# Altium footprint library STM32_Phone.PcbLib: 9 footprints
Each footprint in its own frame and in the unit in brackets; x right, y up, seen from the top. Pads: shape width x height; smd on the part's side, far side on the other; paste and mask are expansions set on the pad; w line width, h text height; cw(c..) or ccw(c..) is an arc to the next point about the centre after c.
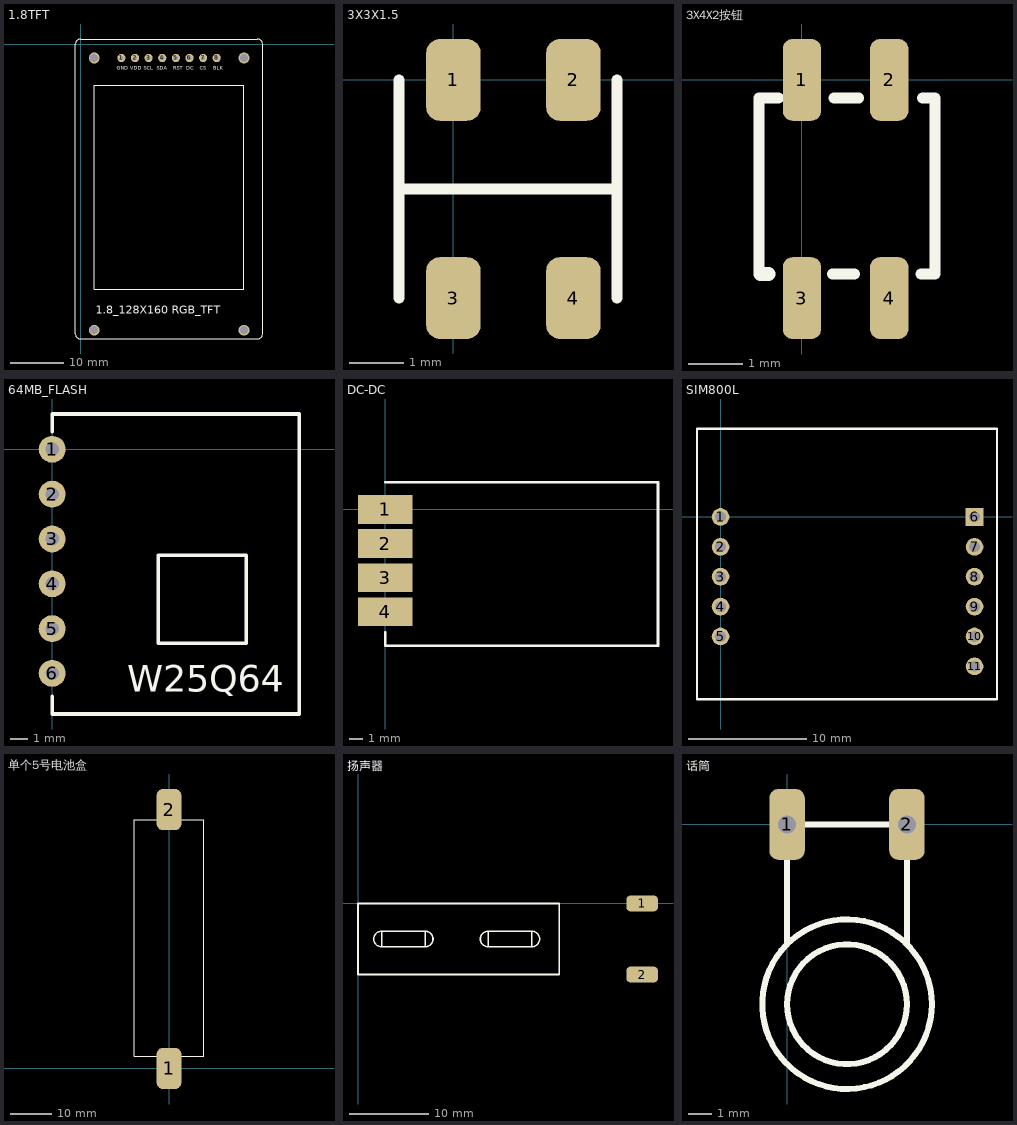
[diagram p0: the footprints below, top view; thin cyan lines are the x and y axes]

## 1.8TFT [mil]
pads (8):
  round 60 hole 30: 1(300,-100) 2(400,-100) 3(500,-100) 4(600,-100) 5(700,-100) 6(800,-100) 7(900,-100) 8(1000,-100)
via 1200,-2100 diameter 78.74 hole 59.06
via 100,-2100 diameter 78.74 hole 59.06
via 1200,-100 diameter 78.74 hole 59.06
via 100,-100 diameter 78.74 hole 59.06
Top Overlay:
  lines w7.87: -39.37,-2125.98 ccw(c0,-2125.98) 0,-2165.35 1299.21,-2165.35 ccw(c1299.21,-2125.98) 1338.58,-2125.98 1338.58,0 ccw(c1299.21,0) 1299.21,39.37 0,39.37 ccw(c0,0) -39.37,0 -39.37,-2125.98 ; 100,-1800 1200,-1800 1200,-300 100,-300 100,-1800
  text "GND" at 265.91,-186.85 h27.56
  text "VDD" at 364.02,-186.85 h27.56
  text "SCL" at 462.76,-186.85 h27.56
  text "SDA" at 561.18,-186.85 h27.56
  text "RST" at 679.29,-186.85 h27.56
  text "DC" at 777.72,-186.85 h27.56
  text "CS" at 876.14,-186.85 h27.56
  text "BLK" at 974.57,-186.85 h27.56
  text "1.8_128X160 RGB_TFT" at 110,-1980.16 h59.06

## 3X3X1.5 [mm]
pads (4):
  rrect50% 1x1.5 / inner rrect50% 1x0 / far side rrect50% 1x0 all layers, no hole: 1(0,0) 3(0,-4)
  rrect50% 1x1.5 / inner rrect50% 1x1.5 / far side rrect50% 1x0 all layers, no hole: 2(2.2,0) 4(2.2,-4)
Top Overlay:
  lines w0.2: -1,-4 -1,0 ; -1,-2 3,-2 ; 3,-4 3,0

## 3X4X2按钮 [mm]
pads (4):
  rrect50% 0.7x1.5 / inner rrect50% 0.7x0 / far side rrect50% 0.7x0 all layers, no hole: 1(0,0) 2(1.6,0) 3(0,-4) 4(1.6,-4)
Top Overlay:
  lines w0.2: -0.711,-3.556 -0.787,-3.556 -0.787,-0.33 -0.432,-0.33 ; 0.559,-3.556 0.965,-3.556 ; 0.584,-0.33 1.041,-0.33 ; 2.184,-3.556 2.438,-3.556 2.438,-0.33 2.21,-0.33
  lines w0.254: -0.762,-3.556 -0.61,-3.556

## 64MB_FLASH [mil]
pads (6):
  round 60 hole 30: 1(0,0) 2(0,-100) 3(0,-200) 4(0,-300) 5(0,-400) 6(0,-500)
Top Overlay:
  lines w7.87: 0,-551.18 0,-590.55 551.18,-590.55 551.18,-551.18 551.18,78.74 0,78.74 0,39.37 ; 236.22,-433.07 433.07,-433.07 433.07,-236.22 236.22,-236.22 236.22,-433.07
  text "W25Q64" at 167.48,-541.18 h59.06

## DC-DC [mm]
pads (4):
  rect 4x2.1 smd: 1(0,0) 2(0,-2.5) 3(0,-5) 4(0,-7.5)
Top Overlay:
  lines w0.2: 0,-9 0,-10 20,-10 20,2 0,2

## SIM800L [mm]
pads (11):
  round 1.5 hole 0.9: 1(0,0) 2(0,-2.54) 3(0,-5.08) 4(0,-7.62) 5(0,-10.16) 7(21.59,-2.54) 8(21.59,-5.08) 9(21.59,-7.62) 10(21.59,-10.16) 11(21.59,-12.7)
  rect 1.5x1.5 hole 0.9: 6(21.59,0)
Top Overlay:
  lines w0.2: -2,-15.5 23.5,-15.5 23.5,7.5 -2,7.5 -2,-15.5
Bottom Overlay:
  lines w0.1: -1.27,1.626 1.27,1.626
  lines w0.2: -1.27,1.626 -1.27,-11.43 1.27,-11.43 1.27,1.626 ; 20.32,-13.97 20.32,1.27 22.86,1.27 22.86,-13.97 20.32,-13.97

## 单个5号电池盒 [mm]
pads (2):
  rrect50% 6x10 / inner oval 6x10 / far side rrect50% 6x0 all layers, no hole: 1(0,0)
  rrect50% 6x10 / inner oval 6x0 / far side rrect50% 6x0 all layers, no hole: 2(0,63)
Top Overlay:
  lines w0.2: -8.5,3 8.5,3 8.5,60.5 -8.5,60.5 -8.5,3

## 扬声器 [mm]
pads (2):
  rrect50% 4x2 / inner rrect50% 1.524x0 / far side rrect50% 1.524x0 all layers, no hole: 1(36,0) 2(36,-9)
Top Overlay:
  lines w0.2: 25.4,-9 0,-9 0,0 25.4,0 ; 25.5,-9 25.5,0 ; 3,-5.5 cw(c3,-4.5) 3,-3.5 ; 3,-5.5 8.5,-5.5 ; 3,-5.5 3,-3.5 ; 3,-3.5 8.5,-3.5 ; 8.5,-5.5 ccw(c8.5,-4.5) 8.5,-3.5 ; 8.5,-5.5 8.5,-3.5 ; 16.5,-5.5 cw(c16.5,-4.5) 16.5,-3.5 ; 16.5,-5.5 16.5,-3.5 ; 16.5,-5.5 22,-5.5 ; 16.5,-3.5 22,-3.5 ; 22,-5.5 ccw(c22,-4.5) 22,-3.5 ; 22,-5.5 22,-3.5

## 话筒 [mm]
pads (2):
  rrect50% 1.5x3 hole 0.762: 1(0,0) 2(5.08,0)
Top Overlay:
  circle w0.254: c2.54,-7.62 r3.592
  circle w0.254: c2.54,-7.62 r2.54
  lines w0.254: 0,-5.08 0,0 5.08,0 5.08,-5.08